# EAGLE library part 691402910006 (library Wurth_Elektronik_Electromechanic_Terminal_Blocks_Connectors_rev15c)
WR-TBL Terminal block - serie 4029 2,54mm - Spring clamp/Screwless - Horizontal wire entry - 06p Code:Con_TBL_Screwless_2.54_6914029100xxB_691402910006 <http://katalog.we-online.de/media/images/eican/Con_TBL_Screwless_2.54_6914029100xxB_pf2.jpg> Details see: http://katalog.we-online.de/en/em/691_402_910_0xxB/691_402_910_006B?m Created 2014-12-22, aslant tao 2014 (C) Würth Elektronik
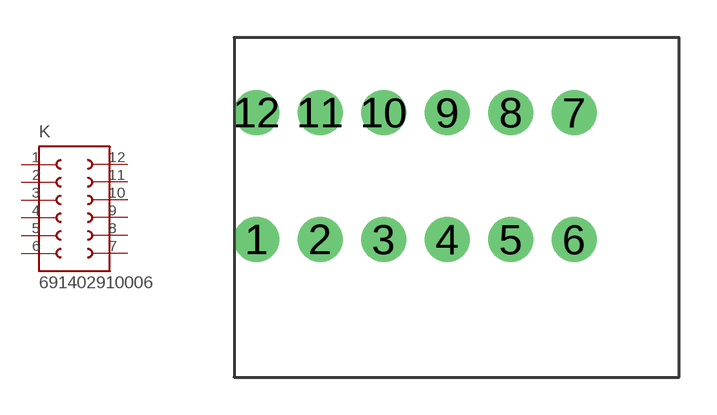
[diagram p206: symbol with the pads of 691402910006; footprint 691402910006]

Designator prefix K

## 691402910006  [691402910006]
1  1  pas
2  2  pas
3  3  pas
4  4  pas
5  5  pas
6  6  pas
7  7  pas
8  8  pas
9  9  pas
10  10  pas
11  11  pas
12  12  pas

## Footprint 691402910006 (pad centres in mm)
WR-TBL Serie 4029 - 2.54mm Screwless Horizontal Entry - 0.5mm2 Wires, 6 Pins
drill 1.2: 1 -7.62,0; 2 -5.08,0; 3 -2.54,0; 4 0,0; 5 2.54,0; 6 5.08,0; 7 5.08,5.08; 8 2.54,5.08; 9 0,5.08; 10 -2.54,5.08; 11 -5.08,5.08; 12 -7.62,5.08